# Altium footprint library 352118RFT.PcbLib: 3 footprints
Each footprint in its own frame and in the unit in brackets; x right, y up, seen from the top. Pads: shape width x height; smd on the part's side, far side on the other; paste and mask are expansions set on the pad; w line width, h text height; cw(c..) or ccw(c..) is an arc to the next point about the centre after c.
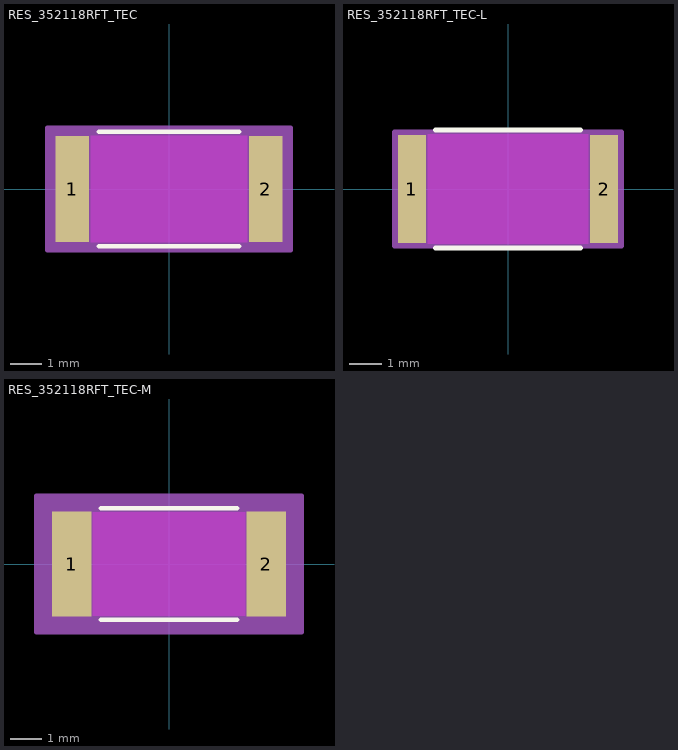
[diagram p0: the footprints below, top view; thin cyan lines are the x and y axes]

## RES_352118RFT_TEC [mil]
pads (2):
  rect 42x132 smd paste+0 mask+0: 1(-119.97,0) 2(119.97,0)
Top Layer keep-out:
  region: -96.97,-64 -96.97,64 96.97,64 96.97,-64
Top Overlay:
  lines w6: -86.86,-71 86.86,-71 ; -86.86,71 86.86,71
Keep-Out Layer:
  region: -96.97,-66 -96.97,66 96.97,66 96.97,-66
Mechanical 13:
  lines w1: -126.97,-66 -126.97,66 ; -126.97,-66 -98.97,-66 -98.97,66 -126.97,66 ; -126.97,-66 126.97,-66 ; -126.97,-66 -126.97,66 ; -126.97,66 126.97,66 ; 126.97,-66 98.97,-66 98.97,66 126.97,66 ; 126.97,-66 126.97,66 ; 126.97,-66 126.97,66
Mechanical 15:
  region: 150.97,-76 -150.97,-76 -150.97,76 150.97,76
  lines w6: -150.97,-76 -150.97,76 150.97,76 150.97,-76 -150.97,-76
3D body "RES_352118RFT_TEC.step": height 25.98, standoff 0, extent -126.97,-65.98 126.97,65.98

## RES_352118RFT_TEC-L [mil]
pads (2):
  rect 34x130 smd paste+0 mask+0: 1(-115.97,0) 2(115.97,0)
Top Layer keep-out:
  region: -96.97,-64 -96.97,64 96.97,64 96.97,-64
Top Overlay:
  lines w6: -87.32,-71 87.32,-71 ; -87.32,71 87.32,71
Keep-Out Layer:
  region: -96.97,-66 -96.97,66 96.97,66 96.97,-66
Mechanical 13:
  lines w1: -126.97,-66 -126.97,66 ; -126.97,-66 -98.97,-66 -98.97,66 -126.97,66 ; -126.97,-66 126.97,-66 ; -126.97,-66 -126.97,66 ; -126.97,66 126.97,66 ; 126.97,-66 98.97,-66 98.97,66 126.97,66 ; 126.97,-66 126.97,66 ; 126.97,-66 126.97,66
Mechanical 15:
  region: 136.97,-69 -136.97,-69 -136.97,69 136.97,69
  lines w6: -136.97,-69 -136.97,69 136.97,69 136.97,-69 -136.97,-69
3D body "RES_352118RFT_TEC.step": height 25.98, standoff 0, extent -126.97,-65.98 126.97,65.98

## RES_352118RFT_TEC-M [mil]
pads (2):
  rect 50x134 smd paste+0 mask+0: 1(-123.97,0) 2(123.97,0)
Top Layer keep-out:
  region: -96.97,-64 -96.97,64 96.97,64 96.97,-64
Top Overlay:
  lines w6: -86.49,-71 86.49,-71 ; -86.49,71 86.49,71
Keep-Out Layer:
  region: -96.97,-66 -96.97,66 96.97,66 96.97,-66
Mechanical 13:
  lines w1: -126.97,-66 -126.97,66 ; -126.97,-66 -98.97,-66 -98.97,66 -126.97,66 ; -126.97,-66 126.97,-66 ; -126.97,-66 -126.97,66 ; -126.97,66 126.97,66 ; 126.97,-66 98.97,-66 98.97,66 126.97,66 ; 126.97,-66 126.97,66 ; 126.97,-66 126.97,66
Mechanical 15:
  region: 168.97,-87 -168.97,-87 -168.97,87 168.97,87
  lines w6: -168.97,-87 -168.97,87 168.97,87 168.97,-87 -168.97,-87
3D body "RES_352118RFT_TEC.step": height 25.98, standoff 0, extent -126.97,-65.98 126.97,65.98